# Altium footprint library PCB - LEADLESS - BGA - EPC EPC2304.PcbLib: 1 footprints
Each footprint in its own frame and in the unit in brackets; x right, y up, seen from the top. Pads: shape width x height; smd on the part's side, far side on the other; paste and mask are expansions set on the pad; w line width, h text height; cw(c..) or ccw(c..) is an arc to the next point about the centre after c.
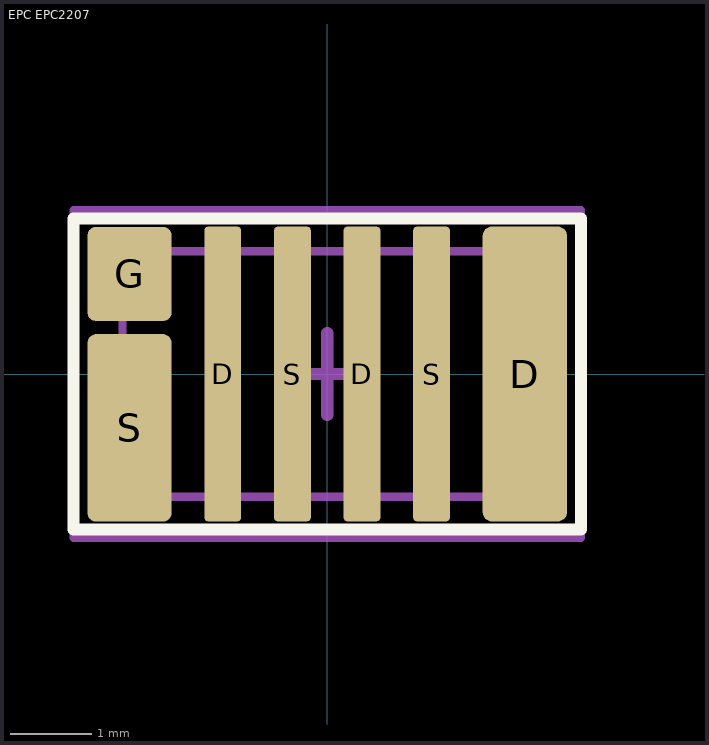
[diagram p0: the footprint, top view; thin cyan lines are the x and y axes]

## EPC EPC2207 [mm] "EPC2207 – Enhancement Mode Power Transistor"
height 0.638
pads (7):
  rrect20% 0.45x3.6 smd paste-1 mask-1: D(-1.275,0) D(0.425,0) S(-0.425,0) S(1.275,0)
  rrect20% 1.028x3.6 smd paste-1 mask-1: D(2.414,0)
  rrect20% 1.028x1.15 smd paste-1 mask-1: G(-2.414,1.222)
  rrect20% 1.028x2.29 smd paste-1 mask-1: S(-2.414,-0.658)
Top Overlay:
  lines w0.15: -3.1,-1.9 -3.1,1.9 3.1,1.9 3.1,-1.9 -3.1,-1.9
Top Paste:
  drawing of 21 lines, arcs and shapes, not listed
Top Solder:
  drawing of 7 lines, arcs and shapes, not listed
Top Assembly:
  lines w0.1: -2.5,-1.5 -2.5,1.5 2.5,1.5 2.5,-1.5 -2.5,-1.5
Top Courtyard (Mech15):
  lines w0.1: -3.1,-2 -3.1,2 3.1,2 3.1,-2 -3.1,-2
  lines w0.15: -0.5,0 0.5,0 ; 0,-0.5 0,0.5
3D body "EPC - EPC2304.step": height 0.7, standoff 0, extent -2.51,-1.51 2.51,1.51